# Altium schematic symbol library Resistor.SchLib: 15 symbols
Pins are listed as number, name and electrical type; pins without a type are passive.

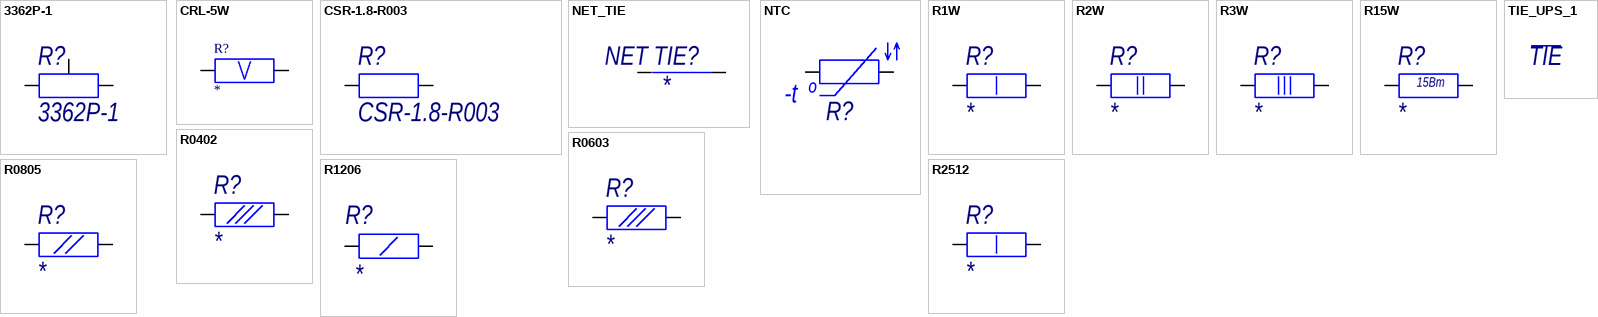
[diagram p0: symbols 3362P-1 to TIE_UPS_1]

## 3362P-1
designator R?
Резистор переменный; ComponentDescription: Резистор выводной 2Вт, 3362P-1, *Ом, 10%; Tolerance: 10%; ComponentType: Резистор выводной 2Вт; Value: *; ComponentName: 3362P-1
footprint 3362P-1
pins: 1, 2, 3

## CRL-5W
designator R?
Резистор выводной 5Вт; ComponentDescription: Резистор выводной 5Вт, *, *Ом, 5%; Tolerance: 5%; ComponentType: Резистор выводной 5Вт; ComponentName: *; Value: *
footprint CRL-5W-V
footprint CRL-5W-H
pins: 1, 2

## CSR-1.8-R003
designator R?
Шунт измерительный; ComponentDescription: Резистор выводной 2Вт, Шунт измерительный, CSR-1.8-R003Ом, 5%; Tolerance: 5%; ComponentType: Резистор выводной 2Вт; Value: CSR-1.8-R003; ComponentName: Шунт измерительный
footprint CSR-1.8-R003
pins: 1, 2

## NET_TIE
designator NET TIE?  (net tie, no BOM)
Перемычка; Tolerance: 5%; ComponentDescription: =ComponentType+', '+ Package +', '+Value+'Ом, ' + Tolerance; ComponentType: NET TIE; Value: *
footprint TIE (Chip Resistor, 2-Leads, Body 3,20x1,60mm, IPC Medium Density)
footprint TIE_TYPE_1
pins: 1, 2

## NTC
designator R?
ComponentDescription: =ComponentType+', '+Value+'Ом, '+ Package; Size: 15mm; ComponentType: Резистор NTC
footprint NTC D11.5-R5.08
footprint NTC D15-R7.62
footprint SL32 NTC D30 (Термистор SL32 диаметр 30мм)
pins: 1, 2
1 alternate drawing of the same symbol
text: o; -t

## R1W
designator R?
Резистор выводной 1Вт; ComponentDescription: Резистор выводной 2Вт, *, *Ом, 5%; Tolerance: 5%; ComponentType: Резистор выводной 2Вт; Value: *; ComponentName: *
footprint R-1W-H (Резистор 1W горизонтальный)
pins: 1, 2

## R2W
designator R?
Резистор выводной 2Вт; ComponentDescription: Резистор выводной 2Вт, *, *Ом, 5%; Tolerance: 5%; ComponentType: Резистор выводной 2Вт; Value: *; ComponentName: *
footprint R-2W-V (Резистор 2W вертикальный)
footprint R-2W-H (Резистор 2W горизоньальный)
pins: 1, 2

## R3W
designator R?
Резистор выводной 3Вт; ComponentDescription: Резистор выводной 2Вт, *, *Ом, 5%; Tolerance: 5%; ComponentType: Резистор выводной 2Вт; Value: *; ComponentName: *
footprint R-3W-H (Резистор 3W горизонтальный)
footprint R-3W-V (Резистор 3W вертикальный)
pins: 1, 2

## R15W
designator R?
Резистор выводной 15Вт; ComponentDescription: Резистор выводной 2Вт, *, *Ом, 5%; Tolerance: 5%; ComponentType: Резистор выводной 2Вт; Value: *; ComponentName: *
footprint R-15W (Резистор 15W горизонтальный)
pins: 1, 2
text: 15Вт

## R0402
designator R?
Резистор SMD; Tolerance: 5%; ComponentType: Резистор SMD; Value: *; ComponentDescription: =ComponentType+', '+ Package +', '+Value+'Ом, ' + Tolerance
footprint R-0402
pins: 1, 2

## R0603
designator R?
Резистор SMD; Tolerance: 5%; ComponentType: Резистор SMD; Value: *; ComponentDescription: =ComponentType+', '+ Package +', '+Value+'Ом, ' + Tolerance
footprint R-0603 (Chip Capacitor, 2-Leads, Body 1,60x0,83mm, IPC Medium Density)
pins: 1, 2

## R0805
designator R?
Резистор SMD; Tolerance: 5%; ComponentDescription: =ComponentType+', '+ Package +', '+Value+'Ом, ' + Tolerance; ComponentType: Резистор SMD; Value: *
footprint R-0805 (Chip Resistor, 2-Leads, Body 2,00x1,25mm, IPC Medium Density)
pins: 1, 2

## R1206
designator R?
Резистор SMD; Tolerance: 5%; ComponentDescription: =ComponentType+', '+ Package +', '+Value+'Ом, ' + Tolerance; ComponentType: Резистор SMD; Value: *
footprint R-1206 (Chip Resistor, 2-Leads, Body 3,20x1,60mm, IPC Medium Density)
pins: 1, 2

## R2512
designator R?
Резистор SMD; Tolerance: 5%; ComponentDescription: =ComponentType+', '+ Package +', '+Value+'Ом, ' + Tolerance; ComponentType: Резистор SMD; Value: *
footprint R-2512
pins: 1, 2

## TIE_UPS_1
designator TIE?, comment TIE  (net tie, no BOM)
Перемычка на плате
footprint TIE_UPS_1
pins: 1, 2